# EAGLE library part STLM75 (library NicksParts)
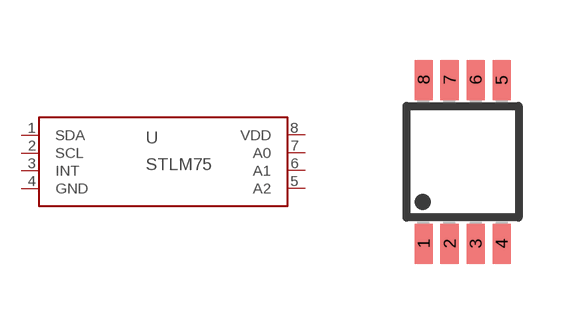
[diagram p11: symbol with the pads of MSOP8; footprint MSOP8]

Designator prefix U

## STLM75  [MSOP8]
1  SDA
2  SCL  in
3  INT  out
4  GND  pwr
5  A2  in
6  A1  in
7  A0  in
8  VDD  pwr

## Footprint MSOP8 (pad centres in mm)
Micro Small Outline Package
smd 0.45 x 1: 1 -0.975,-2.05; 2 -0.325,-2.05; 3 0.325,-2.05; 4 0.975,-2.05; 5 0.975,2.05; 6 0.325,2.05; 7 -0.325,2.05; 8 -0.975,2.05